# Altium footprint library sika_UI.PcbLib: 17 footprints (part 2 of 2)
Each footprint in its own frame and in the unit in brackets; x right, y up, seen from the top. Pads: shape width x height; smd on the part's side, far side on the other; paste and mask are expansions set on the pad; w line width, h text height; cw(c..) or ccw(c..) is an arc to the next point about the centre after c.
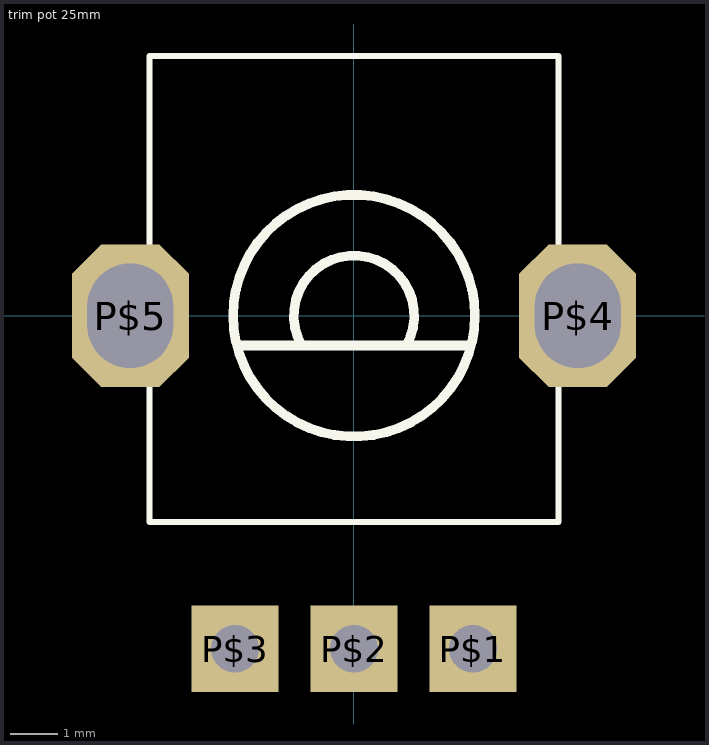
[diagram p1: the footprint, top view; thin cyan lines are the x and y axes]

## trim pot 25mm [mm] "https://www.thonk.co.uk/shop/alpha-9mm-pots/"
height 9.27
pads (5):
  rect 1.82x1.82 / inner rect 1.524x1.524 / far side rect 1.82x1.82 hole 1: P$1(2.501,-7) P$2(0.001,-7) P$3(-2.499,-7)
  oct 2.459x3 / inner oct 1.524x1.524 / far side oct 2.459x2.459 hole 1.8 slot 2.2 at 90 deg: P$4(4.701,0) P$5(-4.699,0)
Top Overlay:
  circle w0.203: c0.001,0 r2.54
  lines w0.127: -4.294,-4.33 -4.294,5.46 4.296,5.46 4.296,-4.33 -4.294,-4.33
  lines w0.203: -2.424,-0.625 2.451,-0.625 ; -1.099,-0.625 cw(c0.001,0) 1.101,-0.625 -1.099,-0.625
3D body "trim_pot_25mm.step": height 25, standoff -3.82, extent -5.699,-7.125 5.701,5.625
3D body: height 1.27, standoff 0, extent 1.739,-7.762 3.263,-6.238
3D body: height 1.27, standoff 0, extent -0.761,-7.762 0.763,-6.238
3D body: height 1.27, standoff 0, extent -3.261,-7.762 -1.737,-6.238
3D body: height 1.27, standoff 0, extent 3.939,-0.762 5.463,0.762
3D body: height 1.27, standoff 0, extent -5.461,-0.762 -3.937,0.762